# Altium footprint library PCB.PCBLIB: 320 footprints (part 16 of 20)
Each footprint in its own frame and in the unit in brackets; x right, y up, seen from the top. Pads: shape width x height; smd on the part's side, far side on the other; paste and mask are expansions set on the pad; w line width, h text height; cw(c..) or ccw(c..) is an arc to the next point about the centre after c.
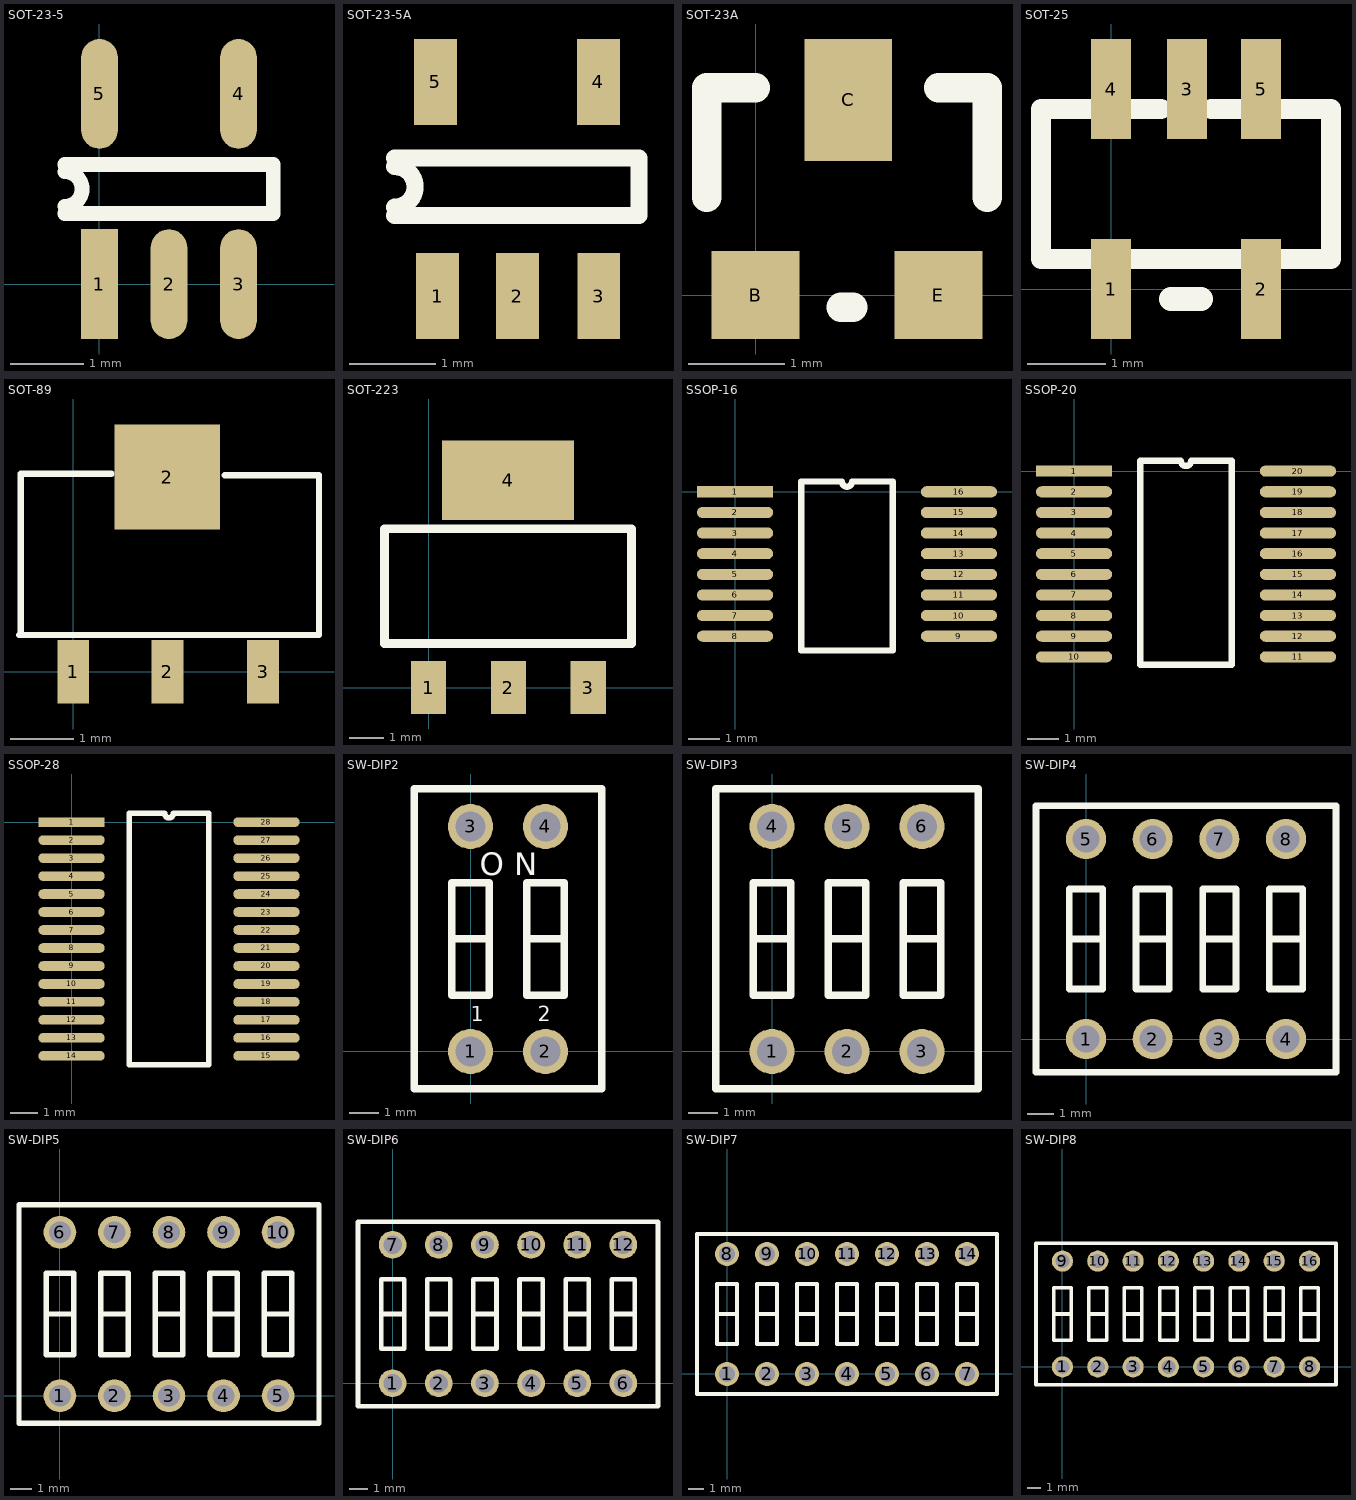
[diagram p15: the footprints below, top view; thin cyan lines are the x and y axes]

## SOT-23-5 [mm]
pads (5):
  rect 0.5x1.5 smd: 1(0,0)
  oval 0.5x1.5 smd: 2(0.95,0) 3(1.9,0) 4(1.9,2.6) 5(0,2.6)
TopOverlay:
  lines w0.2: -0.475,0.965 2.375,0.965 2.375,1.635 -0.475,1.635 ; -0.475,1.063 ccw(c-0.475,1.3) -0.475,1.537

## SOT-23-5A [mm]
pads (5):
  rect 0.5x1 smd: 1(-2.946,-3.835) 2(-2.017,-3.835) 3(-1.067,-3.835) 4(-1.072,-1.337) 5(-2.972,-1.337)
TopOverlay:
  lines w0.2: -3.447,-2.896 -0.597,-2.896 -0.597,-2.226 -3.447,-2.226 ; -3.447,-2.798 ccw(c-3.447,-2.561) -3.447,-2.323

## SOT-23A [mil]
pads (3):
  rect 36x36 smd: B(0,0) E(75,0)
  rect 36x50 smd: C(38,80)
TopOverlay:
  lines w12: -20,40 -20,85 0,85 ; 35,-5 40,-5 ; 75,85 95,85 95,40

## SOT-25 [mil]
pads (5):
  rect 20x50 smd: 1(0,0) 2(75,0) 3(38,100) 4(0,100) 5(75,100)
TopOverlay:
  lines w10: -10,15 -35,15 -35,90 -10,90 ; 10,15 65,15 ; 10,90 25,90 ; 50,90 65,90 ; 85,15 110,15 110,90 85,90
  lines w12: 30,-5 45,-5

## SOT-89 [mil]
pads (4):
  rect 20x40 smd: 1(0,0) 2(59,0) 3(119,0)
  rect 66x66 smd: 2(59,122)
TopOverlay:
  lines w4: -34,23 154,23 154,122 154,123 95,123 ; -33,23 -33,124 24,124

## SOT-223 [mil]
pads (4):
  rect 40x60 smd: 1(0,0) 2(90.55,0) 3(181.1,0)
  rect 150x90 smd: 4(90,235)
TopOverlay:
  lines w10: -50,50 230,50 230,180 -50,180 -50,50

## SSOP-16 [mm]
pads (16):
  rect 2.4x0.35 smd: 1(0,0)
  oval 2.4x0.35 smd: 2(0,-0.65) 3(0,-1.3) 4(0,-1.95) 5(0,-2.6) 6(0,-3.25) 7(0,-3.9) 8(0,-4.55) 9(7.05,-4.55) 10(7.05,-3.9) 11(7.05,-3.25) 12(7.05,-2.6) 13(7.05,-1.95) 14(7.05,-1.3) 15(7.05,-0.65) 16(7.05,0)
TopOverlay:
  lines w0.2: 2.085,-5 2.085,0.325 3.363,0.325 ccw(c3.525,0.325) 3.688,0.325 4.965,0.325 4.965,-5 2.085,-5

## SSOP-20 [mm]
pads (20):
  rect 2.4x0.35 smd: 1(0,0)
  oval 2.4x0.35 smd: 2(0,-0.65) 3(0,-1.3) 4(0,-1.95) 5(0,-2.6) 6(0,-3.25) 7(0,-3.9) 8(0,-4.55) 9(0,-5.2) 10(0,-5.85) 11(7.05,-5.85) 12(7.05,-5.2) 13(7.05,-4.55) 14(7.05,-3.9) 15(7.05,-3.25) 16(7.05,-2.6) 17(7.05,-1.95) 18(7.05,-1.3) 19(7.05,-0.65) 20(7.05,0)
TopOverlay:
  lines w0.2: 2.085,-6.096 2.085,0.325 3.363,0.325 ccw(c3.525,0.325) 3.688,0.325 4.965,0.325 4.965,-6.096 2.085,-6.096

## SSOP-28 [mm]
pads (28):
  rect 2.4x0.35 smd: 1(0,0)
  oval 2.4x0.35 smd: 2(0,-0.65) 3(0,-1.3) 4(0,-1.95) 5(0,-2.6) 6(0,-3.25) 7(0,-3.9) 8(0,-4.55) 9(0,-5.2) 10(0,-5.85) 11(0,-6.5) 12(0,-7.15) 13(0,-7.8) 14(0,-8.45) 15(7.05,-8.45) 16(7.05,-7.8) 17(7.05,-7.15) 18(7.05,-6.5) 19(7.05,-5.85) 20(7.05,-5.2) 21(7.05,-4.55) 22(7.05,-3.9) 23(7.05,-3.25) 24(7.05,-2.6) 25(7.05,-1.95) 26(7.05,-1.3) 27(7.05,-0.65) 28(7.05,0)
TopOverlay:
  lines w0.2: 2.085,-8.775 2.085,0.325 3.363,0.325 ccw(c3.525,0.325) 3.688,0.325 4.965,0.325 4.965,-8.775 2.085,-8.775

## SW-DIP2 [mil]
pads (4):
  round 60 hole 40: 1(0,0) 2(100,0) 3(0,300) 4(100,300)
TopOverlay:
  lines w10: -25,150 25,150 25,225 ; 125,150 75,150 75,225 ; 25,225 -25,225 -25,75 25,75 25,225 ; 75,225 125,225 125,75 75,75 75,225 ; -75,-50 175,-50 175,350 -75,350 -75,-50
  text "O N" at 12.5,235 h30
  text "2" at 90,40 h20
  text "1" at 0,40 h20

## SW-DIP3 [mil]
pads (6):
  round 60 hole 40: 1(0,0) 2(100,0) 3(200,0) 4(0,300) 5(100,300) 6(200,300)
TopOverlay:
  lines w10: 25,150 -25,150 -25,225 ; 125,150 75,150 75,225 ; 225,150 175,150 175,225 ; -25,225 25,225 25,75 -25,75 -25,225 ; 75,225 125,225 125,75 75,75 75,225 ; 175,225 225,225 225,75 175,75 175,225 ; -75,-50 275,-50 275,350 -75,350 -75,-50

## SW-DIP4 [mil]
pads (8):
  round 60 hole 40: 1(0,0) 2(100,0) 3(200,0) 4(300,0) 5(0,300) 6(100,300) 7(200,300) 8(300,300)
TopOverlay:
  lines w10: -25,200 -25,75 25,75 25,225 -25,225 -25,150 25,150 ; 75,150 125,150 ; 175,150 225,150 ; 275,150 325,150 ; -75,-50 -75,350 375,350 375,-50 -75,-50 ; 75,75 125,75 125,225 75,225 75,75 ; 175,75 175,225 225,225 225,75 175,75 ; 275,75 325,75 325,225 275,225 275,75

## SW-DIP5 [mil]
pads (10):
  round 60 hole 40: 1(0,0) 2(100,0) 3(200,0) 4(300,0) 5(400,0) 6(0,300) 7(100,300) 8(200,300) 9(300,300) 10(400,300)
TopOverlay:
  lines w10: -25,150 25,150 ; 75,150 125,150 ; 225,150 175,150 175,225 ; 275,150 325,150 ; 375,150 425,150 ; 175,225 225,225 225,75 175,75 175,225 ; -75,-50 -75,350 475,350 475,-50 -75,-50 ; -25,75 -25,225 25,225 25,75 -25,75 ; 75,75 125,75 125,225 75,225 75,75 ; 275,75 325,75 325,225 275,225 275,75 ; 375,75 375,225 425,225 425,75 375,75

## SW-DIP6 [mil]
pads (12):
  round 60 hole 40: 1(0,0) 2(100,0) 3(200,0) 4(300,0) 5(400,0) 6(500,0) 7(0,300) 8(100,300) 9(200,300) 10(300,300) 11(400,300) 12(500,300)
TopOverlay:
  lines w10: 25,150 -25,150 -25,225 ; 125,150 75,150 75,225 ; 225,150 175,150 175,225 ; 325,150 275,150 275,225 ; 425,150 375,150 375,225 ; 525,150 475,150 475,225 ; -25,225 -25,75 25,75 25,225 -25,225 ; 75,225 75,75 125,75 125,225 75,225 ; 175,225 175,75 225,75 225,225 175,225 ; 275,225 275,75 325,75 325,225 275,225 ; 375,225 375,75 425,75 425,225 375,225 ; 475,225 525,225 525,75 475,75 475,225 ; -75,-50 -75,350 575,350 575,-50 -75,-50

## SW-DIP7 [mil]
pads (14):
  round 60 hole 40: 1(0,0) 2(100,0) 3(200,0) 4(300,0) 5(400,0) 6(500,0) 7(600,0) 8(0,300) 9(100,300) 10(200,300) 11(300,300) 12(400,300) 13(500,300) 14(600,300)
TopOverlay:
  lines w10: 25,150 -25,150 -25,225 ; 125,150 75,150 75,225 ; 225,150 175,150 175,225 ; 325,150 275,150 275,225 ; 425,150 375,150 375,225 ; 525,150 475,150 475,225 ; 625,150 575,150 575,225 ; -25,225 -25,75 25,75 25,225 -25,225 ; 75,225 125,225 125,75 75,75 75,225 ; 175,225 225,225 225,75 175,75 175,225 ; 275,225 325,225 325,75 275,75 275,225 ; 375,225 425,225 425,75 375,75 375,225 ; 475,225 525,225 525,75 475,75 475,225 ; 575,225 625,225 625,75 575,75 575,225 ; -75,-50 -75,350 675,350 675,-50 -75,-50

## SW-DIP8 [mil]
pads (16):
  round 60 hole 40: 1(0,0) 2(100,0) 3(200,0) 4(300,0) 5(400,0) 6(500,0) 7(600,0) 8(700,0) 9(0,300) 10(100,300) 11(200,300) 12(300,300) 13(400,300) 14(500,300) 15(600,300) 16(700,300)
TopOverlay:
  lines w10: 25,150 -25,150 -25,225 ; 125,150 75,150 75,225 ; 225,150 175,150 175,225 ; 325,150 275,150 275,225 ; 425,150 375,150 375,225 ; 525,150 475,150 475,225 ; 625,150 575,150 575,225 ; 725,150 675,150 675,225 ; -25,225 25,225 25,75 -25,75 -25,225 ; 75,225 125,225 125,75 75,75 75,225 ; 175,225 225,225 225,75 175,75 175,225 ; 275,225 325,225 325,75 275,75 275,225 ; 375,225 425,225 425,75 375,75 375,225 ; 475,225 525,225 525,75 475,75 475,225 ; 575,225 625,225 625,75 575,75 575,225 ; 675,225 725,225 725,75 675,75 675,225 ; -75,-50 -75,350 775,350 775,-50 -75,-50